# EAGLE library part TMCS1100A* (library LM555-SHAYAN-NOORANI)
TMCS1100A* Hall-Effect Current Sensor Datasheet <https://www.ti.com/lit/ds/symlink/tmcs1100.pdf?ts=1634308468687&ref_url=https%253A%252F%252Fwww.google.com%252F>
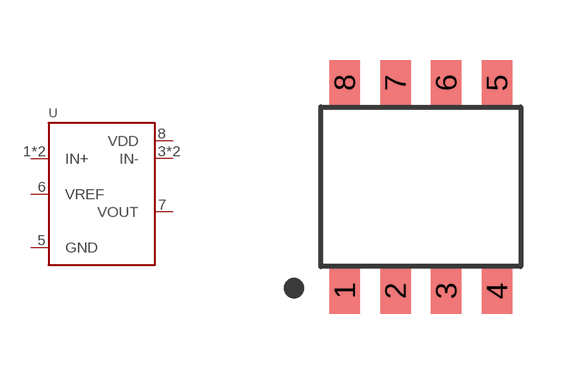
[diagram p29: symbol with the pads of SOIC-08(NARROW,0.15"); footprint SOIC-08(NARROW,0.15")]

Designator prefix U

## TMCS1100A4QDR (DKPN: 296-TMCS1100A4QDR; MANUFACTURER: Texas Instruments; MOPN: 595-TMCS1100A4QDR; MPN: TMCS1100A4), TMCS1100A4QDT (MANUFACTURER: Texas Instruments; MOPN: 595-TMCS1100A4QDT; MPN: TMCS1100A4)  [SOIC-08(NARROW,0.15")]
1  IN+  in
2  IN+  in
3  IN-  out
4  IN-  out
5  GND  pwr
6  VREF  in
7  VOUT  out
8  VDD  pwr

## Footprint SOIC-08(NARROW,0.15") (pad centres in mm)
SOIC-8 Datasheet <https://www.analog.com/media/en/package-pcb-resources/package/pkg_pdf/ltc-legacy-soic/05081610_G_SO8.pdf>
smd 0.762 x 1.143: 1 -1.905,-2.603; 2 -0.635,-2.603; 3 0.635,-2.603; 4 1.905,-2.603; 5 1.905,2.603; 6 0.635,2.603; 7 -0.635,2.603; 8 -1.905,2.603